# Altium schematic symbol library Evaluation Board.SchLib: 189 symbols (part 2 of 2)
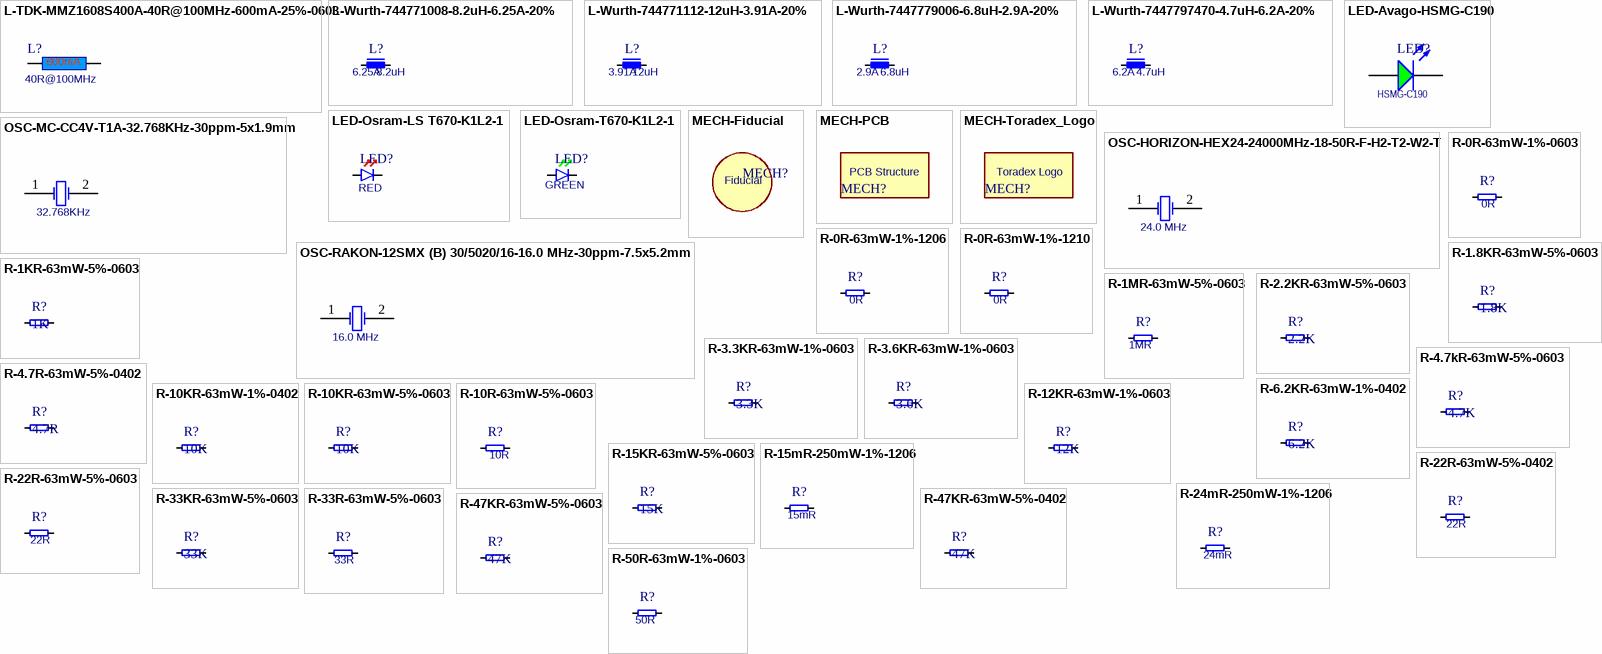
[diagram p10: symbols L-TDK-MMZ1608S400A-40R@100MHz-600mA-25%-0603 to R-50R-63mW-1%-0603]

## R-1MR-63mW-5%-0603
designator R?, comment 1MR
Resistor 1Mohm 63mW 5% 0603; Rating: 63mW; Tolerance: 5%; Value: 1MR
footprint T_RESC0603X30N
pins: 1, 2

## R-2.2KR-63mW-5%-0603
designator R?, comment 2.2K
Resistor 2.2Kohm 63mW 5% 0603; Value: 2.2KR; Rating: 63mW; Tolerance: 5%
footprint T_RESC0603X30N
pins: 1, 2

## R-3.3KR-63mW-1%-0603
designator R?, comment 3.3K
Resistor 3.3 Kohm 63mW 1% 0603; Value: 3.3KR; Rating: 63mW; Tolerance: 1%
footprint T_RESC0603X30N
pins: 1, 2

## R-3.6KR-63mW-1%-0603
designator R?, comment 3.6K
Resistor 3.6 Kohm 63mW 1% 0603; Value: 3.6KR; Rating: 63mW; Tolerance: 1%
footprint T_RESC0603X30N
pins: 1, 2

## R-4.7kR-63mW-5%-0603
designator R?, comment 4.7K
Resistor 4.7 Kohm 63mW 5% 0603; Value: 4.7KR; Rating: 63mW; Tolerance: 5%
footprint t_RESC0603X30N
pins: 1, 2

## R-4.7R-63mW-5%-0402
designator R?, comment 4.7R
Resistor 4.7 ohm 63mW 5% 0402; Rating: 63mW; Tolerance: 5%; Value: 4.7R
footprint RESC1005X40N
pins: 1, 2

## R-6.2KR-63mW-1%-0402
designator R?, comment 6.2K
Resistor 6.2 Kohm 63mW 1% 0402; Value: 6.2KR; Rating: 63mW; Tolerance: 1%
footprint RESC1005X40N
pins: 1, 2

## R-10KR-63mW-1%-0402
designator R?, comment 10K
Resistor 10 Kohm 63mW 1% 0402; Value: 10KR; Rating: 63mW; Tolerance: 1%
footprint RESC1005X40N
pins: 1, 2

## R-10KR-63mW-5%-0603
designator R?, comment 10K
Resistor 10 Kohm 63mW 5% 0603; Value: 10KR; Rating: 63mW; Tolerance: 5%
footprint T_RESC0603X30N
pins: 1, 2

## R-10R-63mW-5%-0603
designator R?, comment 10R
Resistor 10 ohm 63mW 5% 0603; Rating: 63mW; Tolerance: 5%; Value: 10R
footprint T_RESC0603X30N
pins: 1, 2

## R-12KR-63mW-1%-0603
designator R?, comment 12K
Resistor 12 Kohm 63mW 1% 0603; Value: 12KR; Rating: 63mW; Tolerance: 1%
footprint T_RESC0603X30N
pins: 1, 2

## R-15KR-63mW-5%-0603
designator R?, comment 15K
Resistor 15 Kohm 63mW 5% 0603; Value: 15KR; Rating: 63mW; Tolerance: 5%
footprint T_RESC0603X30N
pins: 1, 2

## R-15mR-250mW-1%-1206
designator R?, comment 15mR
Resistor 15 mohm 250mW 1% 1206; Rating: 250mW; Tolerance: 1%; Value: 15mR
footprint RESC3316X76N
pins: 1, 2

## R-22R-63mW-5%-0402
designator R?, comment 22R
Resistor 22 ohm 63mW 5% 0402; Rating: 63mW; Tolerance: 5%; Value: 22R
footprint RESC1005X40N
pins: 1, 2

## R-22R-63mW-5%-0603
designator R?, comment 22R
Resistor 22 ohm 63mW 5% 0603; Rating: 63mW; Tolerance: 5%; Value: 22R
footprint T_RESC0603X30N
pins: 1, 2

## R-24mR-250mW-1%-1206
designator R?, comment 24mR
Resistor 24 mohm 250mW 1% 1206; Rating: 250mW; Tolerance: 1%; Value: 24mR
footprint RESC3316X76N
pins: 1, 2

## R-33KR-63mW-5%-0603
designator R?, comment 33K
Resistor 33 Kohm 63mW 5% 0603; Value: 33KR; Rating: 63mW; Tolerance: 5%
footprint T_RESC0603X30N
pins: 1, 2

## R-33R-63mW-5%-0603
designator R?, comment 33R
Resistor 33 ohm 63mW 5% 0603; Rating: 63mW; Tolerance: 5%; Value: 33R
footprint T_RESC0603X30N
pins: 1, 2

## R-47KR-63mW-5%-0402
designator R?, comment 47K
Resistor 47 Kohm 63mW 5% 0402; Value: 47KR; Rating: 63mW; Tolerance: 5%
footprint RESC1005X40N
pins: 1, 2

## R-47KR-63mW-5%-0603
designator R?, comment 47K
Resistor 47 Kohm 63mW 5% 0603; Value: 47KR; Rating: 63mW; Tolerance: 5%
footprint T_RESC0603X30N
pins: 1, 2

## R-50R-63mW-1%-0603
designator R?, comment 50R
Resistor 50 ohm 63mW 1% 0603; Rating: 63mW; Tolerance: 1%; Value: 50R
footprint T_RESC0603X30N
pins: 1, 2

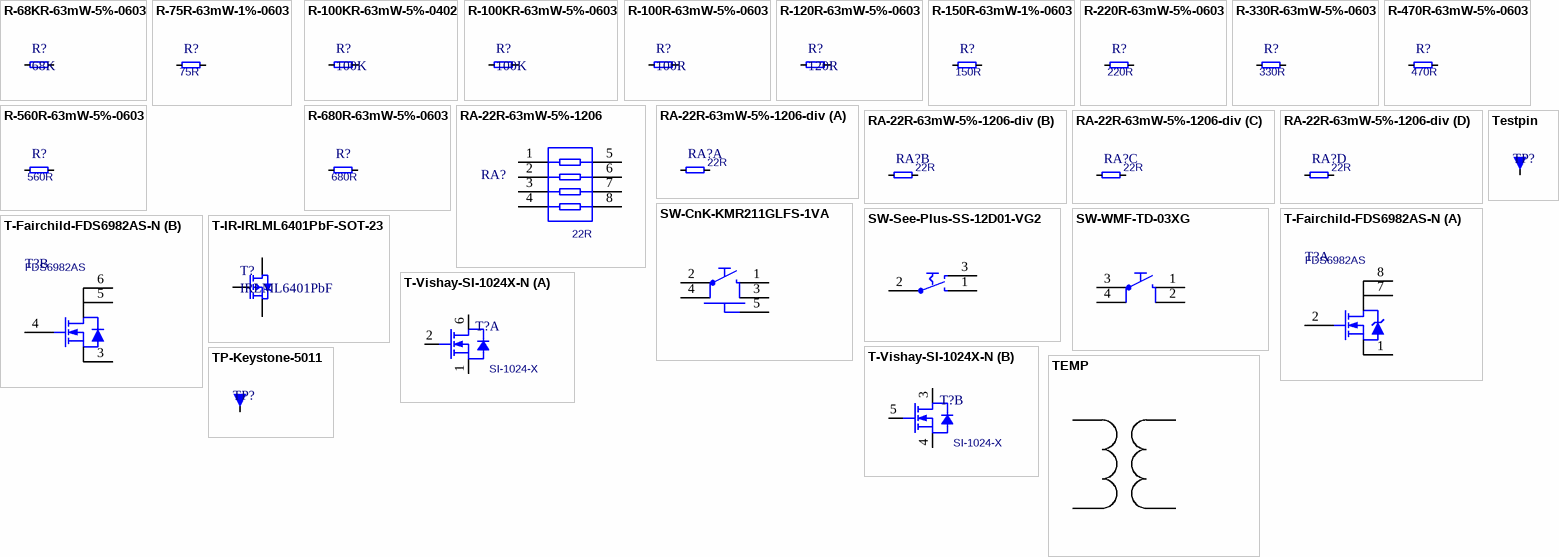
[diagram p9: symbols R-68KR-63mW-5%-0603 to TP-Keystone-5011]

## R-68KR-63mW-5%-0603
designator R?, comment 68K
Resistor 68 Kohm 63mW 5% 0603; Value: 68KR; Rating: 63mW; Tolerance: 5%
footprint T_RESC0603X30N
pins: 1, 2

## R-75R-63mW-1%-0603
designator R?, comment 75R
Resistor 75 ohm 63mW 1% 0603; Rating: 63mW; Tolerance: 1%; Value: 75R
footprint T_RESC0603X30N
pins: 1, 2

## R-100KR-63mW-5%-0402
designator R?, comment 100K
Resistor 100 Kohm 63mW 5% 0402; Value: 100KR; Rating: 63mW; Tolerance: 5%
footprint RESC1005X40N
pins: 1, 2

## R-100KR-63mW-5%-0603
designator R?, comment 100K
Resistor 100 Kohm 63mW 5% 0603; Value: 100KR; Rating: 63mW; Tolerance: 5%
footprint T_RESC0603X30N
pins: 1, 2

## R-100R-63mW-5%-0603
designator R?, comment 100R
Resistor 100 ohm 63mW 5% 0603; Rating: 63mW; Tolerance: 5%; Value: 100R
footprint T_RESC0603X30N
pins: 1, 2

## R-120R-63mW-5%-0603
designator R?, comment 120R
Resistor 120 ohm 63mW 5% 0603; Rating: 63mW; Tolerance: 5%; Value: 120R
footprint T_RESC0603X30N
pins: 1, 2

## R-150R-63mW-1%-0603
designator R?, comment 150R
Resistor 150 ohm 63mW 1% 0603; Rating: 63mW; Tolerance: 1%; Value: 150R
footprint T_RESC0603X30N
pins: 1, 2

## R-220R-63mW-5%-0603
designator R?, comment 220R
Resistor 220 ohm 63mW 5% 0603; Rating: 63mW; Tolerance: 5%; Value: 220R
footprint T_RESC0603X30N
pins: 1, 2

## R-330R-63mW-5%-0603
designator R?, comment 330R
Resistor 330 ohm 63mW 5% 0603; Rating: 63mW; Tolerance: 5%; Value: 330R
footprint T_RESC0603X30N
pins: 1, 2

## R-470R-63mW-5%-0603
designator R?, comment 470R
Resistor 470 ohm 63mW 5% 0603; Rating: 63mW; Tolerance: 5%; Value: 470R
footprint T_RESC0603X30N
pins: 1, 2

## R-560R-63mW-5%-0603
designator R?, comment 560R
Resistor 560 ohm 63mW 5% 0603; Rating: 63mW; Tolerance: 5%; Value: 560R
footprint T_RESC0603X30N
pins: 1, 2

## R-680R-63mW-5%-0603
designator R?, comment 680R
Resistor 680 ohm 63mW 5% 0603; Rating: 63mW; Tolerance: 5%; Value: 680R
footprint T_RESC0603X30N
pins: 1, 2

## RA-22R-63mW-5%-1206
designator RA?, comment 22R
Resistor array 4 x 22R; Rating: 63mW; Tolerance: 5%; Value: 22R
footprint T_Resistor_Array_X4 (Resistor Array 0.8mm)
pins: 1, 2, 3, 4, 5, 6, 7, 8

## RA-22R-63mW-5%-1206-div
designator RA?, comment 22R
Resistor Array 22 R 63mW 5% 1206; Tolerance: 5%; Power Dissipation: 63mW; Value: 22R
footprint T_Resistor_Array_X4 (Resistor Array 0.8mm)
part A pins: 1, 5
part B pins: 2, 6
part C pins: 3, 7
part D pins: 4, 8

## SW-CnK-KMR211GLFS-1VA
designator SW?, comment KMR211GLFS
Power ON Switch; Manufacturer Name: C&N; Rating: 1VA; Manufacturer Part No.: KMR211GLFS
footprint T_CnK_KMR211GLFS (Microminiature Tact Switch for SMT)
pins: 1, 2, 3, 4, 5

## SW-See-Plus-SS-12D01-VG2
designator SW?, comment SS-12D01-VG2
Switch; Manufacturer Name: See-Plus; Rating: 0.3A; Manufacturer Part No.: SS-12D01-VG2
footprint T_See-Plus_SS-12D01-VG2 (Slide Switch)
pins: 1, 2, 3

## SW-WMF-TD-03XG
designator SW?, comment TD-03XG
Switch; Manufacturer Name: WMF; Rating: 50mA; Manufacturer Part No.: TD-03XG
footprint T_WMF_TD-03XG (Push Button)
pins: 1, 2, 3, 4

## T-Fairchild-FDS6982AS-N
designator T?, comment FDS6982AS
N-Channel PowerTrench SyncFET; Manufacturer Name: Fairchild; Manufacturer Part No.: FDS6982AS
footprint SOIC127P600X173-8N
part A pins: 1 S, 2 G, 7 D, 8 D
part B pins: 3 S, 4 G, 5 D, 6 D

## T-IR-IRLML6401PbF-SOT-23
designator T?, comment IRLML6401PbF
p-channel MOSFET, IRLML6401PbF; Manufacturer Name: International Rectifier; Manufacturer Part No.: IRLML6401PbF
footprint SOT95P237X112-3N (SOT23, 3-Leads, Body 3.0x2.6mm (max), Pitch 0.95mm, IPC Medium Density)
pins: 1, 2, 3

## T-Vishay-SI-1024X-N
designator T?  Manufacturer Part No.: SI-1024-X  (hidden comment: T-Vishay-SI-1024X-N)
Dual N-Channel 20V (D-S)  MOSFET; Manufacturer Name: Vishay
footprint SOTFL50P160X60-6N
part A pins: 1 S, 2 G, 6 D
part B pins: 3 D, 4 S, 5 G

## TEMP
designator *
footprint SOP65P490X110-8AN

## Testpin
designator TP?  (value not drawn)
Testpin TH
footprint T_TP-THT (Testpin TH)
pins: 1

## TP-Keystone-5011
designator TP?, comment 5011  (value not drawn)
Testpin Eye TH; Manufacturere Name: Keystone; Manufacturere Part No.: 5011
footprint T_TP-THT - EYE (Testpin TH)
pins: 1